# Altium footprint library PCBStudy(LEDLight).PcbLib: 4 footprints
Each footprint in its own frame and in the unit in brackets; x right, y up, seen from the top. Pads: shape width x height; smd on the part's side, far side on the other; paste and mask are expansions set on the pad; w line width, h text height; cw(c..) or ccw(c..) is an arc to the next point about the centre after c.
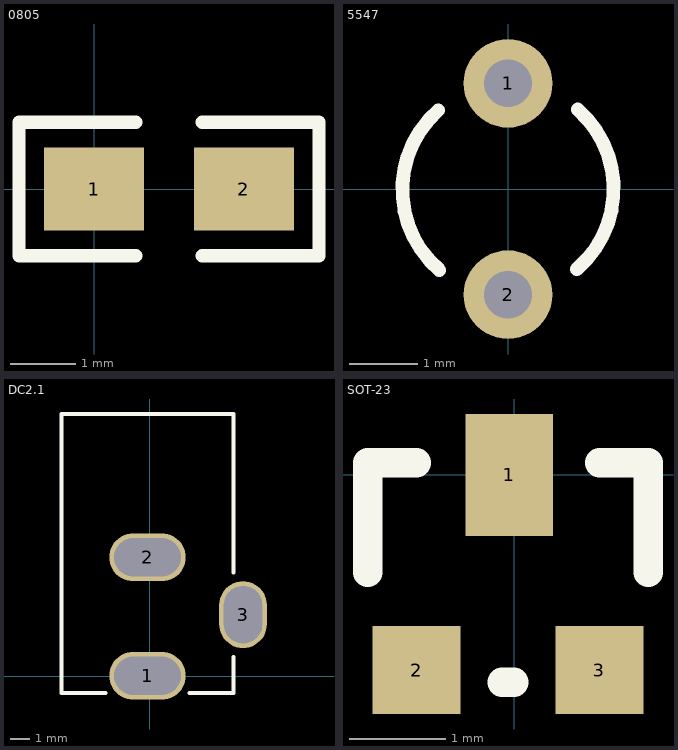
[diagram p0: the footprints below, top view; thin cyan lines are the x and y axes]

## 0805 [mil]
pads (2):
  rect 60x50 smd: 1(0,0) 2(90,0)
Top Overlay:
  lines w8: 25,-40 -45,-40 -45,40 25,40 ; 65,-40 135,-40 135,40 65,40

## 5547 [mm] "光敏电阻5547"
height 8.2
pads (2):
  round 1.3 hole 0.7: 1(0,1.55) 2(0,-1.55)
Top Overlay:
  lines w0.2: -1.022,1.155 ccw(c0,-0.01) -1.006,-1.189 ; 1.006,-1.179 ccw(c0,0) 1.022,1.165

## DC2.1 [mm]
pads (3):
  oval 4x2.5 hole 2 slot 3.5 at 0 deg: 1(-0.127,0.016) 2(-0.127,6.216)
  oval 2.5x3.5 hole 2 slot 3 at 90 deg: 3(4.873,3.216)
Top Overlay:
  lines w0.2: -2.327,-0.884 -4.627,-0.884 -4.627,13.716 4.373,13.716 4.373,5.416 ; 2.073,-0.884 4.373,-0.884 4.373,1.016

## SOT-23 [mil]
pads (3):
  rect 36x50 smd: 1(-2,0)
  rect 36x36 smd: 2(-40,-80) 3(35,-80)
Top Overlay:
  lines w12: -60,-40 -60,5 -40,5 ; -5,-85 0,-85 ; 35,5 55,5 55,-40